# Altium schematic symbol library SIMBOLS_ANALOGICS.SchLib: 16 symbols
Pins are listed as number, name and electrical type; pins without a type are passive.

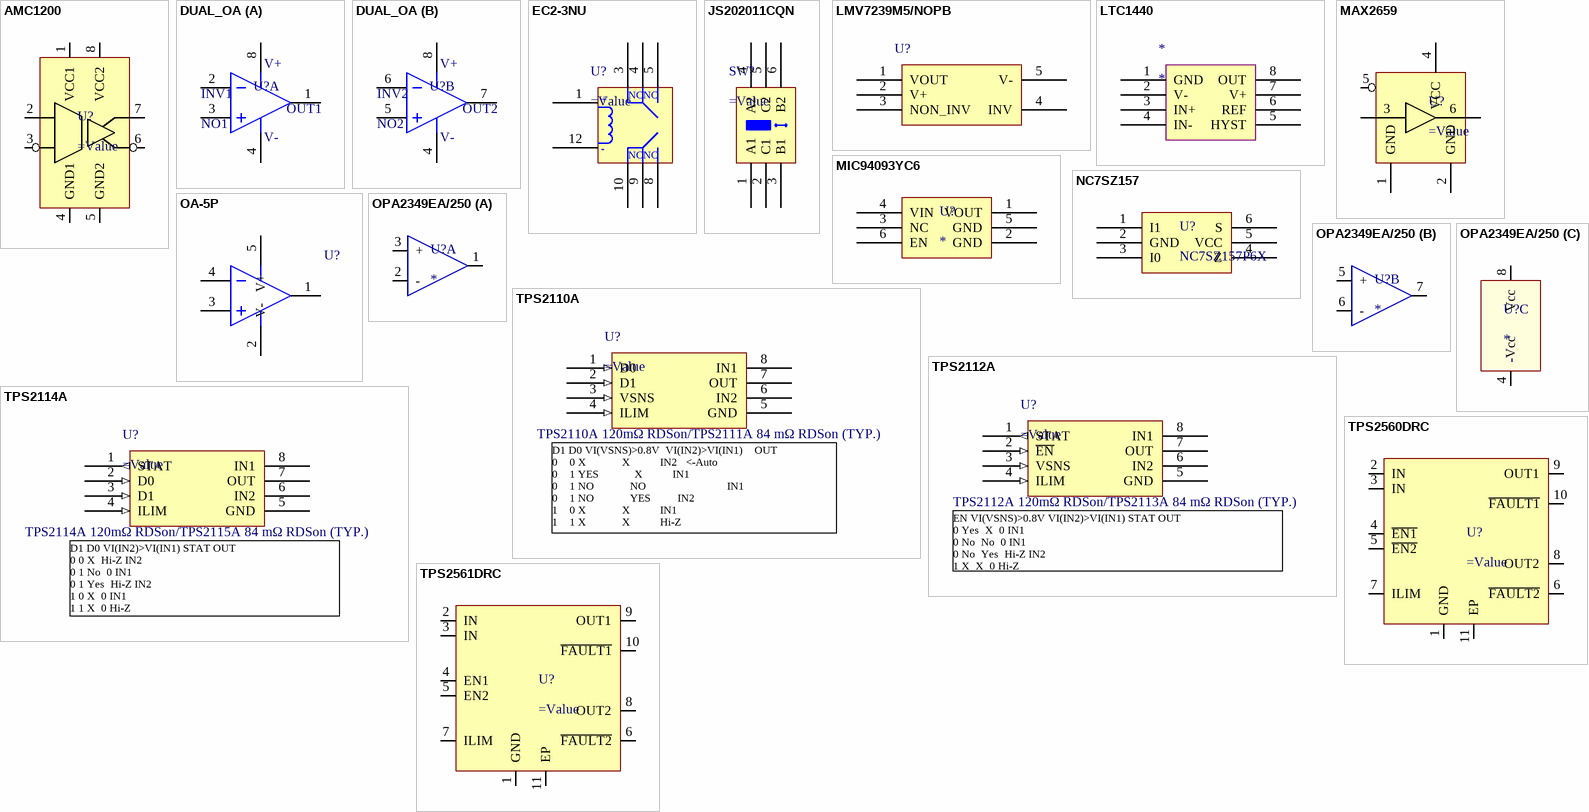
[diagram p0: symbols AMC1200 to TPS2561DRC]

## AMC1200
designator U?
pins: 1 VCC1, 2 VINP, 3 VINN, 4 GND1, 5 GND2, 6 VOUTN, 7 VOUTP, 8 VCC2

## DUAL_OA
designator U?
part A pins: 1 OUT2, 2 INV1, 3 NO1, 4 V- (power), 8 V+ (power)
part B pins: 4 V- (power), 5 NO2, 6 INV2, 7 OUT2, 8 V+ (power)
part A text: OUT1

## EC2-3NU
designator U?
pins: 1 COIL+, 3 NC1, 4 COM1, 5 NO1, 8 NO2, 9 COM2, 10 NC2, 12 COIL-
text: NC; NO; +; -

## JS202011CQN
designator SW?
pins: 1 A1 (power), 2 C1 (power), 3 B1 (power), 4 A2 (power), 5 C2 (power), 6 B2 (power)

## LMV7239M5/NOPB
designator U?
pins: 1 VOUT, 2 V+ (power), 3 NON_INV (hiz), 4 INV (hiz), 5 V- (power)

## LTC1440
designator *
pins: 1 GND (power), 2 V-, 3 IN+, 4 IN-, 5 HYST, 6 REF, 7 V+ (power), 8 OUT

## MAX2659
designator U?
pins: 1 GND, 2 GND, 3 RFIN, 4 VCC, 5 ~{SHDN}, 6 RFOUT

## MIC94093YC6
designator U?
high side load switch with active load discharge
footprint SOT363-6N (SOT363, 6-Leads, Body 2x1.3mm, Pitch 0.65mm, Lead Span 2.1mm, IPC Medium Density)
pins: 1 VOUT, 2 GND, 3 NC, 4 VIN, 5 GND, 6 EN

## NC7SZ157
designator U?, comment NC7SZ157P6X
High Speed 2:1 Multiplexer; Manufacturer: Fairchild; PartnNr: NC7SZ157P6X
footprint SOT363-6N (SOT363, 6-Leads, Body 2x1.3mm, Pitch 0.65mm, Lead Span 2.1mm, IPC Medium Density)
pins: 1 I1, 2 GND, 3 I0, 4 Z, 5 VCC, 6 S

## OA-5P
designator U?
OA-5P
footprint SOT95P280X130-5N (SOT23, 5-Leads, Body 2,90x2,80mm, Pitch 0,95mm, IPC Medium Density)
pins: 1 IN+, 2 V- (power), 3 IN-, 4 OUT, 5 V+ (power)

## OPA2349EA/250
designator U?
footprint SOT23-8 (Footprint not found)
simulation model OPA349 (Model Description)
part A pins: 1 outA, 2 -, 3 +
part B pins: 5 +, 6 -, 7 outB
part C pins: 4 -Vcc, 8 Vcc

## TPS2110A
designator U?  Note: TPS2110A 120mΩ RDSon/TPS2111A 84 mΩ RDSon (TYP.)
pins: 1 D0 (in), 2 D1 (in), 3 VSNS (in), 4 ILIM (in), 5 GND (power), 6 IN2 (power), 7 OUT (power), 8 IN1 (power)
text: D1 D0	VI(VSNS)>0.8V  VI(IN2)>VI(IN1)    OUT / 0    0	X	           X		        IN2	  <-Auto / 0    1	YES	           X		        IN1 / 0    1	NO	           NO                           IN1 / 0    1	NO	           YES	        IN2 / 1    0	X	           X		        IN1 / 1    1	X	           X		        Hi-Z

## TPS2112A
designator U?  Note: TPS2112A 120mΩ RDSon/TPS2113A 84 mΩ RDSon (TYP.)
pins: 1 STAT (out), 2 ~{EN} (in), 3 VSNS (in), 4 ILIM (in), 5 GND (power), 6 IN2 (power), 7 OUT (power), 8 IN1 (power)
text: EN	VI(VSNS)>0.8V	VI(IN2)>VI(IN1)	STAT	OUT / 0	Yes		X		0	IN1 / 0	No		No		0	IN1 / 0	No		Yes		Hi-Z	IN2 / 1	X		X		0	Hi-Z

## TPS2114A
designator U?  Note: TPS2114A 120mΩ RDSon/TPS2115A 84 mΩ RDSon (TYP.)
pins: 1 STAT (out), 2 D0 (in), 3 D1 (in), 4 ILIM (in), 5 GND (power), 6 IN2 (power), 7 OUT (power), 8 IN1 (power)
text: D1	D0	VI(IN2)>VI(IN1)	STAT	OUT / 0	0	X		Hi-Z	IN2 / 0	1	No		0	IN1 / 0	1	Yes		Hi-Z	IN2 / 1	0	X		0	IN1 / 1	1	X		0	Hi-Z

## TPS2560DRC
designator U?
pins: 1 GND, 2 IN, 3 IN, 4 ~{EN1}, 5 ~{EN2}, 6 ~{FAULT2}, 7 ILIM, 8 OUT2, 9 OUT1, 10 ~{FAULT1}, 11 EP

## TPS2561DRC
designator U?
pins: 1 GND, 2 IN, 3 IN, 4 EN1, 5 EN2, 6 ~{FAULT2}, 7 ILIM, 8 OUT2, 9 OUT1, 10 ~{FAULT1}, 11 EP